# Altium schematic symbol library Modules.SchLib: 6 symbols
Pins are listed as number, name and electrical type; pins without a type are passive.

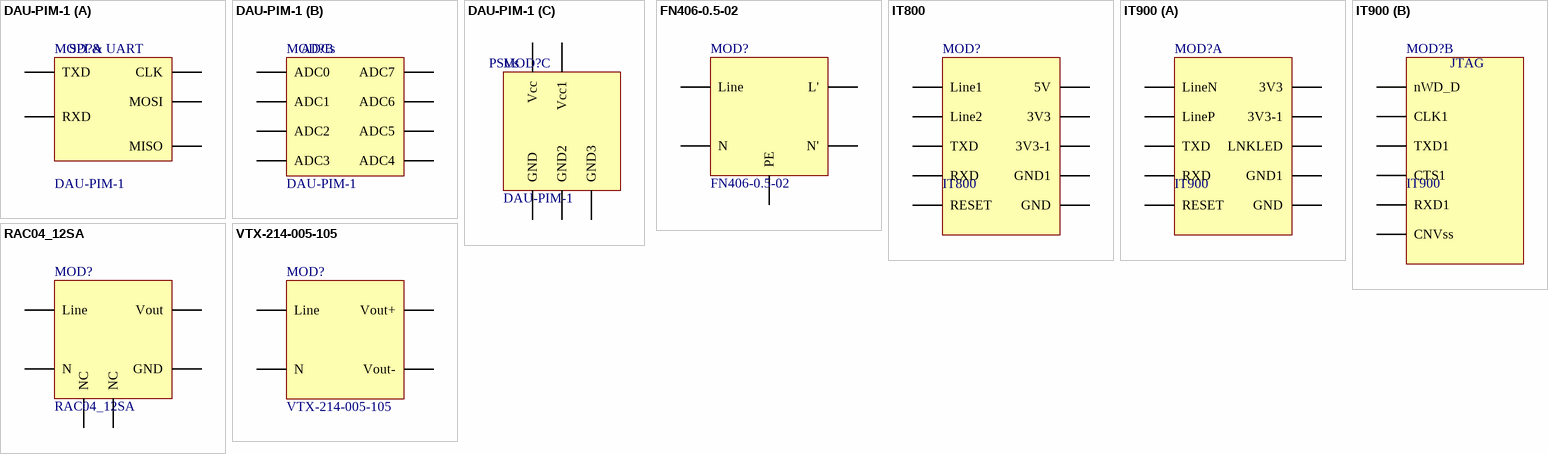
[diagram p0: symbols DAU-PIM-1 to VTX-214-005-105]

## DAU-PIM-1
designator MOD?
DAU PIM; Deliverer PartNr: MOD00001; Deliverer: TDE; Published: 27.10.2014; TDE-PN: MOD00001; PackageDescription: TO100-10; Publisher: Sebastian Kulik; Manufacturer PartNr: MOD00001; Manufacturer: TDE
footprint PIM (DAU-PIM-1)
part A pins: CLK, MISO, MOSI, RXD, TXD
part B pins: ADC0, ADC1, ADC2, ADC3, ADC4, ADC5, ADC6, ADC7
part C pins: GND, GND2, GND3, Vcc, Vcc1
part A text: SPI & UART
part B text: ADCs
part C text: PSUs

## FN406-0.5-02
designator MOD?
Power line filter; Deliverer PartNr: 631-FN406-0.5/02; Manufacturer: Schaffner; Deliverer: Mouser; TDE-PN: MOD00003; Published: 05.11.2014; PackageDescription: RAC04_12SA; Publisher: Sebastian Kulik; Manufacturer PartNr: FN406-0.5-02
footprint NETZFILTER
pins: L Line, L', N, N', PE

## IT800
designator MOD?
RMS converter; Deliverer PartNr: MOD00001; Deliverer: TDE; Published: 27.10.2014; TDE-PN: MOD00001; PackageDescription: TO100-10; Publisher: Sebastian Kulik; Manufacturer PartNr: MOD00001; Manufacturer: TDE
footprint IT800
pins: 2 GND, 3 GND1, 4 3V3, 5 3V3-1, 9 RESET, 16 TXD, 17 RXD, 20 Line1, 21 Line2, 25 5V

## IT900
designator MOD?
RMS converter; Deliverer PartNr: MOD00001; Deliverer: TDE; TDE-PN: MOD00004; Published: 15.12.2014; PackageDescription: TO100-10; Publisher: Sebastian Kulik; Manufacturer PartNr: MOD00001; Manufacturer: TDE
footprint IT900-PIM (IT900)
part A pins: 2 GND, 3 GND1, 4 3V3, 5 3V3-1, 9 RESET, 16 TXD, 17 RXD, 20 LineN, 21 LineP, 22 LNKLED
part B pins: 26 nWD_D, 27 CLK1, 28 TXD1, 29 CTS1, 30 RXD1, 31 CNVss
part B text: JTAG

## RAC04_12SA
designator MOD?
PSU module; Deliverer PartNr: 1793175; Manufacturer PartNr: RAC04-12SA; Manufacturer: Recom; Deliverer: Farnell; TDE-PN: MOD00002; Published: 04.11.2014; PackageDescription: RAC04_12SA; Publisher: Sebastian Kulik
footprint RAC04_12SA
pins: +VO Vout, GND, L Line, N, NC, NC1 NC

## VTX-214-005-105
designator MOD?
PSU module; Deliverer PartNr: 2401040; Manufacturer: VIGORTRONIX; Deliverer: Farnell; TDE-PN: MOD00005; Published: 15.12.2014; PackageDescription: VTX-214-005-105; Publisher: Sebastian Kulik; Manufacturer PartNr: VTX-214-005-105
footprint VTX-214-005-105
pins: +VO Vout+, -VO Vout-, L Line, N